# Altium schematic symbol library ACROME_Lib.SchLib: 89 symbols (part 3 of 3)
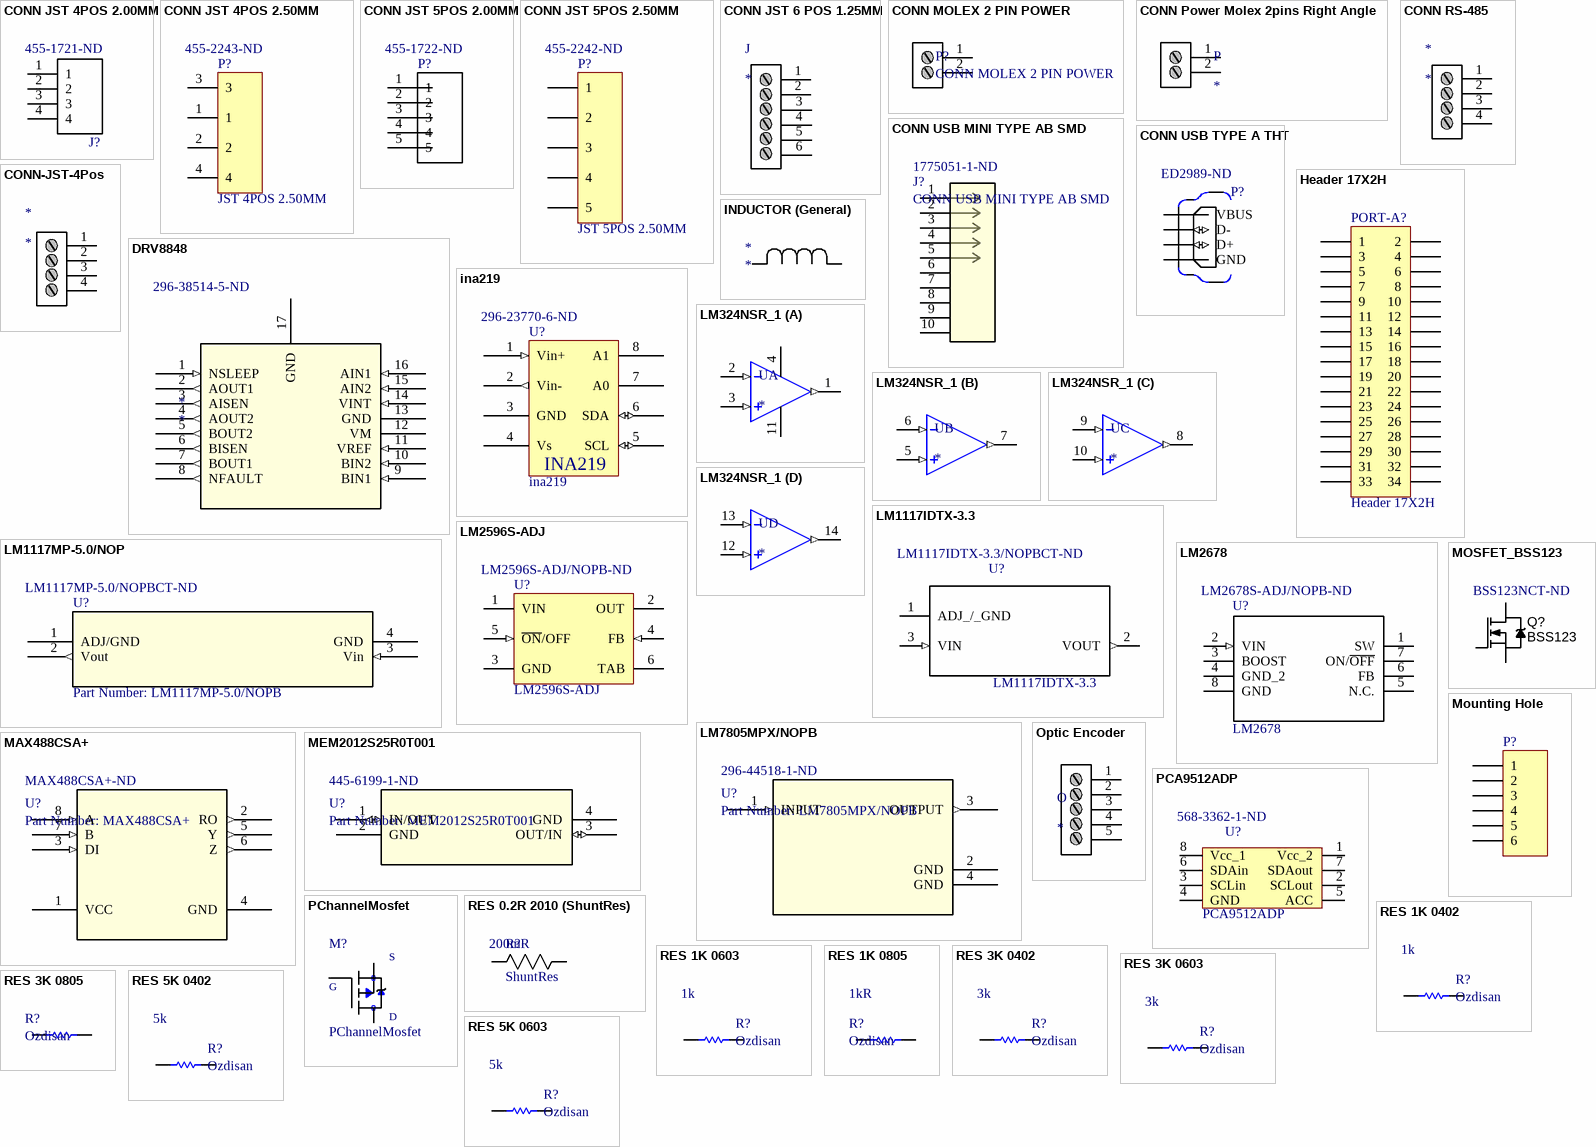
[diagram p4: symbols CONN JST 4POS 2.00MM to RES 5K 0603]

## LM2678
designator U?  Supplier Part Number 1: LM2678S-ADJ/NOPB-ND
Conv DC-DC Single Step Down 8V to 40V 8-Pin(7+Tab) TO-263 Rail; Manufacturer: TI National Semiconductor; Manufacturer Part Number: LM2678S-ADJ/NOPB; Quiescent Current: 4.2mA; Output Type: Adjustable; Number of Outputs: 1; Output Voltage: 37V; Max Output Current: 5A; Switching Frequency: 260kHz; Efficiency: 84%; Min Output Voltage: 1.2V; Supplier 1: Digi-Key; RoHS: Yes; Category: Voltage Regulators - Switching; Stock 1: 1752; Pricing 1: 1=6,28000, 10=5,67600, 25=5,41200, 100=4,48800, 250=4,09200, 500=3,82800, 1000=3,43200, 2500=3,30000 (USD); Mount: Surface Mount; Case/Package: TO-263; Number of Pins: 7; Weight: 0.01lb; Contact Plating: Tin,Matte; Min Operating Temperature: -40°C; Max Operating Temperature: 125°C; Min Input Voltage: 8V; Max Input Voltage: 40V; Packaging: Rail/Tube; Output Current: 5A; Package Quantity: 45; Operating Supply Voltage: 40V; Max Output Voltage: 37V; Length: 10.16mm; Height: 4.57mm; Width: 8.64mm; Radiation Hardening: No; Lead Free: Contains Lead; REACH SVHC: No SVHC; ComponentLink1URL: https://datasheet.ciiva.com/22684/1874569-22684598.pdf?src-supplier=Element14; ComponentLink1Description: https://datasheet.ciiva.com/22684/1874569-22684598.pdf?src-supplier=Element14; ComponentLink2URL: https://datasheet.ciiva.com/3220/lm2678-3220055.pdf?src-supplier=Avnet; ComponentLink2Description: https://datasheet.ciiva.com/3220/lm2678-3220055.pdf?src-supplier=Avnet; ComponentLink3URL: https://datasheet.ciiva.com/6596/lm2678-6596055.pdf?src-supplier=Digi-Key; ComponentLink3Description: https://datasheet.ciiva.com/6596/lm2678-6596055.pdf?src-supplier=Digi-Key; ComponentLink4URL: https://datasheet.ciiva.com/16536/lm2678-16536149.pdf?src-supplier=Avnet+Asia; ComponentLink4Description: https://datasheet.ciiva.com/16536/lm2678-16536149.pdf?src-supplier=Avnet+Asia; ComponentLink5URL: https://datasheet.ciiva.com/14150/jwlm2678-datasheet-en-14150620.pdf?src-supplier=Distrelec; ComponentLink5Description: https://datasheet.ciiva.com/14150/jwlm2678-datasheet-en-14150620.pdf?src-supplier=Distrelec
footprint TO-263/7
pins: 1 SW (power), 2 VIN (in), 3 BOOST, 4 GND_2, 5 N.C., 6 FB, 7 ON/~{OFF}, 8 GND

## LM7805MPX/NOPB
designator U?, comment Part Number: LM7805MPX/NOPB  Supplier Part Number 1: 296-44518-1-ND
IC REG LINEAR 5V 1.5A SOT223-4; Built_By: EMA_Jessica; Vendor: Texas Instruments; Quiescent Current: 8mA; Dropout Voltage: 2V; Copyright: Copyright (C) 2018 Accelerated Designs. All rights reserved; Manufacturer_Part_Number: LM7805MPX/NOPB; RefDes: RefDes; Type: DEV; Value: Value; Supplier 1: Digi-Key; Manufacturer: Texas Instruments; Manufacturer Part Number: LM7805MPX/NOPB; RoHS: No; Category: Voltage Regulators - Linear; Stock 1: 2642; Pricing 1: 1=1,32000, 10=1,18000, 25=1,12000, 100=0,86000, 250=0,76000, 500=0,72000, 1000=0,56000 (USD); Min Operating Temperature: 0°C; Max Operating Temperature: 125°C; Lead Free: Lead Free
footprint DCY4
pins: 1 INPUT (in), 2 GND (power), 3 OUTPUT (out), 4 GND (power)

## MAX488CSA+
designator U?, comment Part Number: MAX488CSA+  Supplier Part Number 1: MAX488CSA+-ND
IC TXRX RS485/RS422 LOWPWR 8SOIC; Manufacturer: Maxim; Built_By: EMA_UL_Team; Vendor: Maxim Integrated Products; Logic Function: Transceiver,Receiver; Number of Transmitters: 1; Operating Supply Voltage: 5V; Data Rate: 250Kbps; Simplex/Duplex: Full Duplex; Interface: RS-422,RS-485; Operating Supply Current: 250uA; Max Supply Voltage: 5.25V; Min Supply Voltage: 4.75V; Manufacturer_Part_Number: MAX488CSA+; Copyright: Copyright (C) 2018 Accelerated Designs. All rights reserved; RefDes: RefDes; Type: DEV; Value: Value; Supplier 1: Digi-Key; Manufacturer Part Number: MAX488CSA+; RoHS: Yes; Category: Interface ICs; Stock 1: 1334; Pricing 1: 1=2,33000, 10=2,09400, 25=1,97960, 100=1,66480 (USD); Mount: Surface Mount; Case/Package: SOIC; Number of Pins: 8; Weight: 0.01787oz; Min Operating Temperature: 0°C; Max Operating Temperature: 70°C; Packaging: Rail/Tube; Number of Drivers: 1; Number of Transceivers: 1; Number of Receivers: 1; Package Quantity: 100; Length: 5mm; Height: 1.5mm; Width: 4mm; Radiation Hardening: No; Lead Free: Lead Free; REACH SVHC: No SVHC; ComponentLink1URL: https://datasheet.ciiva.com/3028/max1487-max491-3028658.pdf?src-supplier=Avnet; ComponentLink1Description: https://datasheet.ciiva.com/3028/max1487-max491-3028658.pdf?src-supplier=Avnet; ComponentLink2URL: https://datasheet.ciiva.com/1712/max1487-max491-1712635.pdf?src-supplier=Digi-Key; ComponentLink2Description: https://datasheet.ciiva.com/1712/max1487-max491-1712635.pdf?src-supplier=Digi-Key; ComponentLink3URL: https://datasheet.ciiva.com/14152/jwmax481-491-data-e-14152686.pdf?src-supplier=Distrelec; ComponentLink3Description: https://datasheet.ciiva.com/14152/jwmax481-491-data-e-14152686.pdf?src-supplier=Distrelec; ComponentLink4URL: https://datasheet.ciiva.com/16640/max1487-max491-16640620.pdf?src-supplier=Avnet+Europe; ComponentLink4Description: https://datasheet.ciiva.com/16640/max1487-max491-16640620.pdf?src-supplier=Avnet+Europe
footprint 21-0041B_8
pins: 1 VCC (power), 2 RO (out), 3 DI (in), 4 GND (power), 5 Y (out), 6 Z (out), 7 B (in), 8 A (in)

## MEM2012S25R0T001
designator U?, comment Part Number: MEM2012S25R0T001  Supplier Part Number 1: 445-6199-1-ND
FILTER LC(T) 25MHZ SMD; Vendor: TDK; Built_By: EMA_UL_Team; Attenuation Value: 30dB; Current: 100mA; ESD Protection: No; Max Voltage Rating (DC): 10V; Number of Channels: 1; Tolerance: 30%; Manufacturer_Part_Number: MEM2012S25R0T001; Copyright: Copyright (C) 2018 Accelerated Designs. All rights reserved; RefDes: RefDes; Type: DEV; Value: Value; Supplier 1: Digi-Key; Manufacturer: TDK; Manufacturer Part Number: MEM2012S25R0T001; RoHS: Yes; Category: EMI / RFI Components; Stock 1: 22410; Pricing 1: 1=0,39000, 10=0,35800, 25=0,34120, 50=0,33000, 100=0,31900, 250=0,30252, 500=0,25300, 1000=0,19635 (USD); Case/Package: 0805; Case Code (Metric): 2012; Case Code (Imperial): 0805; Min Operating Temperature: -40°C; Max Operating Temperature: 85°C; Circuit Type: Filter; Max DC Current: 100mA; Termination: SMD/SMT; Package Quantity: 1; Max Current Rating: 100mA; Packaging: Tape and Reel; Current Rating: 100mA; Voltage Rating (DC): 10V; Length: 2mm; Height: 0.037inch; Depth: 1.25mm; Width: 0.049inch; Lead Free: Lead Free; ComponentLink1URL: https://datasheet.ciiva.com/1016/e96-mem-sp-1016163.pdf?src-supplier=Digi-Key; ComponentLink1Description: https://datasheet.ciiva.com/1016/e96-mem-sp-1016163.pdf?src-supplier=Digi-Key; ComponentLink2URL: https://datasheet.ciiva.com/1016/e96-mem-sp-1016161.pdf?src-supplier=Digi-Key; ComponentLink2Description: https://datasheet.ciiva.com/1016/e96-mem-sp-1016161.pdf?src-supplier=Digi-Key; ComponentLink3URL: https://datasheet.ciiva.com/1016/e96-mem-sp-1016162.pdf?src-supplier=Digi-Key; ComponentLink3Description: https://datasheet.ciiva.com/1016/e96-mem-sp-1016162.pdf?src-supplier=Digi-Key
footprint MEM-4_2P0X1P25-M
pins: 1 IN/OUT (io), 2 GND (power), 3 OUT/IN (io), 4 GND (power)

## MOSFET_BSS123
designator Q?, comment BSS123  Supplier Part Number 2: BSS123NCT-ND
100V, 3.5 OHM, N-CH, FET, SOT-; Manufacturer 1: Diodes Inc; Manufacturer Part Number 1: BSS123-7-F; Manufacturer: ON Semiconductor / Fairchild; Ratings: 100V; 170mA; Material: Metal Oxide; SCDType: source; Continuous Drain Current (ID): 170mA; Input Capacitance: 73pF; Max Power Dissipation: 360mW; Gate to Source Voltage (Vgs): 20V; Rds On Max: 6R; Turn-Off Delay Time: 17ns; Element Configuration: Single; Turn-On Delay Time: 1.7ns; Rise Time: 9ns; Number of Elements: 1; Nominal Vgs: 1.7V; Package / Case: SOT23-3; Supplier 1: Digi-Key; Supplier Part Number 1: BSS123-FDICT-ND; Supplier 2: Digi-Key; Manufacturer Part Number: BSS123; RoHS: Yes; Category: MOSFETs; Stock 2: 211934; Pricing 2: 1=0,31000, 10=0,25500, 25=0,21320, 100=0,10430, 250=0,10264, 500=0,08698, 1000=0,06044 (USD); Mount: Surface Mount; Case/Package: SOT-23; Number of Pins: 3; Contact Plating: Tin,Matte; Min Operating Temperature: -55°C; Max Operating Temperature: 150°C; Drain to Source Voltage (Vdss): 100V; Packaging: Tape and Reel; Power Dissipation: 360mW; Drain to Source Resistance: 6R; Package Quantity: 1; Drain to Source Breakdown Voltage: 100V; Fall Time: 9ns; Voltage Rating (DC): 100V; Current Rating: 170mA; Threshold Voltage: 1.7V; On-State Resistance: 6R; Voltage: 100V; Dual Supply Voltage: 100V; Length: 2.92mm; Height: 0.93mm; Width: 1.3mm; Radiation Hardening: No; Lead Free: Lead Free; REACH SVHC: No SVHC; ComponentLink1URL: https://datasheet.ciiva.com/5836/276131-5836616.pdf?src-supplier=Farnell; ComponentLink1Description: https://datasheet.ciiva.com/5836/276131-5836616.pdf?src-supplier=Farnell; ComponentLink2URL: https://datasheet.ciiva.com/27050/870161-27050553.pdf?src-supplier=Jameco; ComponentLink2Description: https://datasheet.ciiva.com/27050/870161-27050553.pdf?src-supplier=Jameco; ComponentLink3URL: https://datasheet.ciiva.com/4441/bss123-90724-4441226.pdf?src-supplier=Mouser; ComponentLink3Description: https://datasheet.ciiva.com/4441/bss123-90724-4441226.pdf?src-supplier=Mouser; ComponentLink4URL: https://datasheet.ciiva.com/3304/bss123-3304416.pdf?src-supplier=Avnet; ComponentLink4Description: https://datasheet.ciiva.com/3304/bss123-3304416.pdf?src-supplier=Avnet; ComponentLink5URL: https://datasheet.ciiva.com/15137/getdatasheetpartid-58830-15137228.pdf?src-supplier=Verical; ComponentLink5Description: https://datasheet.ciiva.com/15137/getdatasheetpartid-58830-15137228.pdf?src-supplier=Verical; ComponentLink6URL: https://datasheet.ciiva.com/931/bss123-931780.pdf?src-supplier=Digi-Key; ComponentLink6Description: https://datasheet.ciiva.com/931/bss123-931780.pdf?src-supplier=Digi-Key; ComponentLink7URL: https://datasheet.ciiva.com/931/bss123-931781.pdf?src-supplier=Digi-Key; ComponentLink7Description: https://datasheet.ciiva.com/931/bss123-931781.pdf?src-supplier=Digi-Key; ComponentLink8URL: https://datasheet.ciiva.com/1190/276131-1190075.pdf?src-supplier=Element14; ComponentLink8Description: https://datasheet.ciiva.com/1190/276131-1190075.pdf?src-supplier=Element14; ComponentLink9URL: https://datasheet.ciiva.com/931/bss123-931782.pdf?src-supplier=Digi-Key; ComponentLink9Description: https://datasheet.ciiva.com/931/bss123-931782.pdf?src-supplier=Digi-Key; ComponentLink10URL: https://datasheet.ciiva.com/16465/bss123-16465671.pdf?src-supplier=Avnet+Asia; ComponentLink10Description: https://datasheet.ciiva.com/16465/bss123-16465671.pdf?src-supplier=Avnet+Asia; ComponentLink11URL: https://datasheet.ciiva.com/7643/276131-7643050.pdf?src-supplier=Element14; ComponentLink11Description: https://datasheet.ciiva.com/7643/276131-7643050.pdf?src-supplier=Element14; ComponentLink12URL: https://datasheet.ciiva.com/17170/bss123-17170795.pdf?src-supplier=Future+Electronics; ComponentLink12Description: https://datasheet.ciiva.com/17170/bss123-17170795.pdf?src-supplier=Future+Electronics
footprint SOT23-3 (SOT23, 3 pin)
pins: 1 G, 2 S, 3 D

## Mounting Hole
designator P?
footprint PCBComponent_1
pins: 1, 2, 3, 4, 5, 6

## Optic Encoder
designator O
Optic Encoder
footprint Optic Encoder
pins: 1, 2, 3, 4 42, 5

## PCA9512ADP
designator U?  Supplier Part Number 1: 568-3362-1-ND
NXP - PCA9512ADP,118 - I2C BUS/SMBUS BUS BUFFER 5.5V TSSOP-8; Manufacturer: NXP Semiconductors; Min Supply Voltage: 2.7V; Max Frequency: 400kHz; Interface: I2C,SMBus; Number of Channels: 1; Nominal Supply Current: 3.6mA; Operating Supply Current: 1.8mA; Number of Input Lines: 3; Supplier 1: Digi-Key; Manufacturer Part Number: PCA9512ADP,118; RoHS: Yes; Category: Interface ICs; Stock 1: 8977; Pricing 1: 1=2,32000, 10=2,08800, 25=1,96960, 100=1,57560, 250=1,37864, 500=1,33926, 1000=1,06353 (USD); Mount: Surface Mount; Case/Package: TSSOP; Number of Pins: 8; Contact Plating: Gold; Min Operating Temperature: -40°C; Max Operating Temperature: 85°C; Max Supply Voltage: 5.5V; Packaging: Cut Tape; Logic Function: Buffer; Package Quantity: 1; Number of Output Lines: 3; Length: 3.1mm; Height: 0.95mm; Width: 3.1mm; Radiation Hardening: No; Lead Free: Lead Free; REACH SVHC: No SVHC; ComponentLink1URL: https://datasheet.ciiva.com/1560/1759214-1560740.pdf?src-supplier=Farnell; ComponentLink1Description: https://datasheet.ciiva.com/1560/1759214-1560740.pdf?src-supplier=Farnell; ComponentLink2URL: https://datasheet.ciiva.com/46390/1759214-46390790.pdf?src-supplier=Element14; ComponentLink2Description: https://datasheet.ciiva.com/46390/1759214-46390790.pdf?src-supplier=Element14; ComponentLink3URL: https://datasheet.ciiva.com/1504/1759214-1504152.pdf?src-supplier=Element14; ComponentLink3Description: https://datasheet.ciiva.com/1504/1759214-1504152.pdf?src-supplier=Element14; ComponentLink4URL: https://datasheet.ciiva.com/16220/pca9512a-pca9512b-16220616.pdf?src-supplier=Future+Electronics; ComponentLink4Description: https://datasheet.ciiva.com/16220/pca9512a-pca9512b-16220616.pdf?src-supplier=Future+Electronics; ComponentLink5URL: https://datasheet.ciiva.com/1611/1759214-1611305.pdf?src-supplier=Newark; ComponentLink5Description: https://datasheet.ciiva.com/1611/1759214-1611305.pdf?src-supplier=Newark; ComponentLink6URL: https://datasheet.ciiva.com/1783/pca9512a-pca9512b-1783033.pdf?src-supplier=Digi-Key; ComponentLink6Description: https://datasheet.ciiva.com/1783/pca9512a-pca9512b-1783033.pdf?src-supplier=Digi-Key; ComponentLink7URL: https://datasheet.ciiva.com/1783/pca9512a-pca9512b-1783034.pdf?src-supplier=Digi-Key; ComponentLink7Description: https://datasheet.ciiva.com/1783/pca9512a-pca9512b-1783034.pdf?src-supplier=Digi-Key; ComponentLink8URL: https://datasheet.ciiva.com/1783/pca9512a-pca9512b-1783035.pdf?src-supplier=Digi-Key; ComponentLink8Description: https://datasheet.ciiva.com/1783/pca9512a-pca9512b-1783035.pdf?src-supplier=Digi-Key; ComponentLink9URL: https://datasheet.ciiva.com/3149/pca9512a-pca9512b-3149259.pdf?src-supplier=Avnet; ComponentLink9Description: https://datasheet.ciiva.com/3149/pca9512a-pca9512b-3149259.pdf?src-supplier=Avnet; ComponentLink10URL: https://datasheet.ciiva.com/3149/pca9512a-pca9512b-3149260.pdf?src-supplier=Avnet; ComponentLink10Description: https://datasheet.ciiva.com/3149/pca9512a-pca9512b-3149260.pdf?src-supplier=Avnet
footprint TSSOP8
pins: 1 Vcc_2, 2 SCLout, 3 SCLin, 4 GND, 5 ACC, 6 SDAin, 7 SDAout, 8 Vcc_1

## PChannelMosfet
designator M?
footprint NChannelMosfet
pins: 1_G G, 2_D D, 3_S S

## RES 0.2R 2010 (ShuntRes)
designator R?, comment ShuntRes  Resistance: 200mR
RES.SHUNT (5025) 2010 200m Ohms 1% 3W; Manufacturer: ISABELLENHÜTTE; Manufacturer Part Number: VMP-R200-1.0-U; Temperature Coefficient: ±20ppm/°K; Voltage Rating: 310mV; Supplier 1: Ozdisan; Mount: Surface Mount; Case/Package: 2010; Weight: 0.001372oz; Case Code (Metric): 5025; Case Code (Imperial): 2010; Contact Plating: Tin,Matte; Min Operating Temperature: -65°C; Max Operating Temperature: 170°C; Power Rating: 3W; Tolerance: 1%; Packaging: Tape and Reel; Package Quantity: 1; Composition: Metal Element,Metal Strip; Military Standard: Not; Termination: SMD/SMT; Number of Terminations: 2; Max Power Dissipation: 3W; Features: Moisture Resistant; Length: 0.2inch; Height: 0.635mm; Width: 0.1inch; Depth: 2.54mm; Radiation Hardening: No; REACH SVHC: Unknown; Lead Free: Lead Free; Supplier Part Number 1: VMP-R200-1.0-U; ComponentLink7Description: OZDISAN-Supplier Link; ComponentLink7URL: https://www.ozdisan.com/passive-components/resistors/precision-power-and-shunt-resistors/VMP-R200-1-0-U
footprint 2010 CHIP-RES
pins: 1, 2

## RES 1K 0402
designator R?, comment Ozdisan  Resistance: 1k
RES.(1005) 0402 1K Ohms 5% 1/16W 100PPM; Manufacturer Part Number: 0402WGJ0102TCEX; Temperature Coefficient: 200ppm/°C; Voltage Rating (DC): 50V; Power Rating: 100mW; ComponentLink1Description: OZDISAN-Supplier Link; ComponentLink1URL: https://www.ozdisan.com/passive-components/resistors/smt-smd-and-chip-resistors/0402WGJ0102TCE; Manufacturer: Ozdisan; RoHS: Yes; Mount: Surface Mount; Case/Package: 0402; Contact Plating: Tin; Case Code (Metric): 1005; Case Code (Imperial): 0402; Min Operating Temperature: -55°C; Max Operating Temperature: 155°C; Composition: Thick Film; Tolerance: 5%; Number of Terminations: 2; Termination: SMD/SMT; Military Standard: Not; Packaging: Tape and Reel; Voltage Rating: 50V; Package Quantity: 1; Features: Automotive AEC-Q200; Max Power Dissipation: 100mW; Working Voltage: 50V; Length: 1mm; Height: 0.35mm; Depth: 0.5mm; Width: 0.02inch; Radiation Hardening: No; Lead Free: Lead Free; REACH SVHC: No SVHC; ComponentLink2URL: https://datasheet.ciiva.com/11821/0900766b80f806dd-11821202.pdf?src-supplier=RSComponents; ComponentLink2Description: https://datasheet.ciiva.com/11821/0900766b80f806dd-11821202.pdf?src-supplier=RSComponents; ComponentLink3URL: https://datasheet.ciiva.com/34303/1986781-34303542.pdf?src-supplier=Jameco; ComponentLink3Description: https://datasheet.ciiva.com/34303/1986781-34303542.pdf?src-supplier=Jameco; ComponentLink4URL: https://datasheet.ciiva.com/16762/70260739-16762170.pdf?src-supplier=Allied+Electronics; ComponentLink4Description: https://datasheet.ciiva.com/16762/70260739-16762170.pdf?src-supplier=Allied+Electronics; ComponentLink5URL: https://datasheet.ciiva.com/17215/aoa0000ce1-17215306.pdf?src-supplier=Avnet+Europe; ComponentLink5Description: https://datasheet.ciiva.com/17215/aoa0000ce1-17215306.pdf?src-supplier=Avnet+Europe; ComponentLink6URL: https://datasheet.ciiva.com/43460/1500035-43460379.pdf?src-supplier=Farnell; ComponentLink6Description: https://datasheet.ciiva.com/43460/1500035-43460379.pdf?src-supplier=Farnell; ComponentLink7URL: https://datasheet.ciiva.com/16199/aoa0000ce1-16199541.pdf?src-supplier=Future+Electronics; ComponentLink7Description: https://datasheet.ciiva.com/16199/aoa0000ce1-16199541.pdf?src-supplier=Future+Electronics; ComponentLink8URL: https://datasheet.ciiva.com/30219/4aoa0000ce1-30219159.pdf?src-supplier=Onlinecomponents.com; ComponentLink8Description: https://datasheet.ciiva.com/30219/4aoa0000ce1-30219159.pdf?src-supplier=Onlinecomponents.com; ComponentLink9URL: https://datasheet.ciiva.com/22783/1500035-22783817.pdf?src-supplier=Farnell; ComponentLink9Description: https://datasheet.ciiva.com/22783/1500035-22783817.pdf?src-supplier=Farnell; ComponentLink10URL: https://datasheet.ciiva.com/48531/aoa0000ce1-48531081.pdf?src-supplier=Avnet; ComponentLink10Description: https://datasheet.ciiva.com/48531/aoa0000ce1-48531081.pdf?src-supplier=Avnet; ComponentLink11URL: https://datasheet.ciiva.com/46386/1500035-46386458.pdf?src-supplier=Element14; ComponentLink11Description: https://datasheet.ciiva.com/46386/1500035-46386458.pdf?src-supplier=Element14; ComponentLink12URL: https://datasheet.ciiva.com/16511/aoa0000ce1-16511421.pdf?src-supplier=Avnet+Asia; ComponentLink12Description: https://datasheet.ciiva.com/16511/aoa0000ce1-16511421.pdf?src-supplier=Avnet+Asia; ComponentLink13URL: https://datasheet.ciiva.com/46371/1500035-46371935.pdf?src-supplier=Element14; ComponentLink13Description: https://datasheet.ciiva.com/46371/1500035-46371935.pdf?src-supplier=Element14
footprint 0402 CHIP-RES
pins: 1, 2

## RES 1K 0603
designator R?, comment Ozdisan  Resistance: 1k
RES.(1608) 0603 1K Ohms 5% 1/10W 100PPM; Manufacturer: Yageo; Manufacturer Part Number: 0603SAJ0102T5E; Power Rating: 100mW; Voltage Rating: 50V; Temperature Coefficient: 100ppm/°C; RoHS: Yes; Case/Package: 0603; Number of Pins: 2; Case Code (Imperial): 0603; Case Code (Metric): 1608; Contact Plating: Tin,Matte; Min Operating Temperature: -55°C; Max Operating Temperature: 155°C; Packaging: Tape and Reel; Tolerance: 5%; Voltage Rating (DC): 50V; Termination: SMD/SMT; Composition: Thick Film; Length: 1.6mm; Height: 0.45mm; Depth: 0.8mm; Width: 0.8mm; Radiation Hardening: No; Lead Free: Lead Free; REACH SVHC: Unknown; ComponentLink1URL: https://datasheet.ciiva.com/8883/pyu-rc0603-51-rohs-l-4-8883051.pdf?src-supplier=Avnet; ComponentLink1Description: https://datasheet.ciiva.com/8883/pyu-rc0603-51-rohs-l-4-8883051.pdf?src-supplier=Avnet; ComponentLink2URL: https://datasheet.ciiva.com/7746/443971-7746461.pdf?src-supplier=Element14; ComponentLink2Description: https://datasheet.ciiva.com/7746/443971-7746461.pdf?src-supplier=Element14; ComponentLink3URL: https://datasheet.ciiva.com/7746/443971-7746462.pdf?src-supplier=Element14; ComponentLink3Description: https://datasheet.ciiva.com/7746/443971-7746462.pdf?src-supplier=Element14; ComponentLink4URL: https://datasheet.ciiva.com/22747/443971-22747533.pdf?src-supplier=Element14; ComponentLink4Description: https://datasheet.ciiva.com/22747/443971-22747533.pdf?src-supplier=Element14; Supplier 1: Ozdisan; Supplier Part Number 1: 0603SAJ0102T5E; ComponentLink5Description: OZDISAN-Supplier Link; ComponentLink5URL: https://www.ozdisan.com/passive-components/resistors/smt-smd-and-chip-resistors/0603SAJ0102T5E
footprint 0603 CHIP-RES
pins: 1, 2

## RES 1K 0805
designator R?, comment Ozdisan  Resistance: 1kR
RES.(2012) 0805 1K Ohms 5% 1/8W 100PPM; Manufacturer: Yageo; Manufacturer Part Number: RC0805JR-071KL; Temperature Coefficient: 100ppm/°C; Power Rating: 125mW; Voltage Rating: 150V; ComponentLink4Description: OZDISAN-Supplier Link; ComponentLink4URL: https://www.ozdisan.com/passive-components/resistors/smt-smd-and-chip-resistors/RC0805JR-071KL; Supplier 1: Ozdisan; RoHS: Yes; Case/Package: 0805; Contact Plating: Tin,Lead,Matte; Case Code (Imperial): 0805; Case Code (Metric): 2012; Min Operating Temperature: -55°C; Max Operating Temperature: 155°C; Composition: Thick Film; Tolerance: 5%; Packaging: Tape and Reel; Termination: SMD/SMT; Military Standard: Not; Length: 2mm; Depth: 1.25mm; Radiation Hardening: No; REACH SVHC: Unknown; Lead Free: Lead Free; ComponentLink1URL: https://datasheet.ciiva.com/15190/getdatasheetpartid-135056-15190037.pdf?src-supplier=Verical; ComponentLink1Description: https://datasheet.ciiva.com/15190/getdatasheetpartid-135056-15190037.pdf?src-supplier=Verical; ComponentLink2URL: https://datasheet.ciiva.com/12667/rc0805-12667110.pdf?src-supplier=Mouser; ComponentLink2Description: https://datasheet.ciiva.com/12667/rc0805-12667110.pdf?src-supplier=Mouser; ComponentLink3URL: https://datasheet.ciiva.com/7941/442941-7941911.pdf?src-supplier=Element14; ComponentLink3Description: https://datasheet.ciiva.com/7941/442941-7941911.pdf?src-supplier=Element14; ComponentLink5URL: https://datasheet.ciiva.com/7941/442941-7941912.pdf?src-supplier=Element14; ComponentLink5Description: https://datasheet.ciiva.com/7941/442941-7941912.pdf?src-supplier=Element14; ComponentLink6URL: https://datasheet.ciiva.com/46395/444164-46395131.pdf?src-supplier=Element14; ComponentLink6Description: https://datasheet.ciiva.com/46395/444164-46395131.pdf?src-supplier=Element14; Supplier Part Number 1: RC0805JR-071KL
footprint 0805 CHIP-RES
pins: 1, 2

## RES 3K 0402
designator R?, comment Ozdisan  Resistance: 3k
RES.(1005) 0402 3.3K Ohms 5% 1/16W 100PPM; Manufacturer: KOA Speer; Manufacturer Part Number: 0402WGJ0332TCE302J; Voltage Rating (DC): 50V; Temperature Coefficient: 200ppm/°C; Power Rating: 100mW; ComponentLink1Description: OZDISAN-Supplier link; ComponentLink1URL: https://www.ozdisan.com/passive-components/resistors/smt-smd-and-chip-resistors/0402WGJ0332TCE; RoHS: Yes; Mount: Surface Mount; Case/Package: 0402; Case Code (Imperial): 0402; Case Code (Metric): 1005; Min Operating Temperature: -55°C; Max Operating Temperature: 155°C; Termination: SMD/SMT; Composition: Thick Film; Tolerance: 5%; Packaging: Tape and Reel; Voltage Rating: 50V; Length: 1mm; Height: 0.35mm; Depth: 0.5mm; Width: 0.5mm; Lead Free: Lead Free; ComponentLink2URL: https://datasheet.ciiva.com/15202/getdatasheetpartid-257517-15202621.pdf?src-supplier=Verical; ComponentLink2Description: https://datasheet.ciiva.com/15202/getdatasheetpartid-257517-15202621.pdf?src-supplier=Verical; Supplier: Ozdisan
footprint 0402 CHIP-RES
pins: 1, 2

## RES 3K 0603
designator R?, comment Ozdisan  Resistance: 3k
RES.(1608) 0603 3K Ohms 5% 1/10W-S 100PPM; Manufacturer: Yageo; Manufacturer Part Number: 0603SAJ0302T5E; Voltage Rating (DC): 50V; Power Rating: 100mW; Voltage Rating: 75V; Temperature Coefficient: 100ppm/°C; ComponentLink1Description: OZDISAN-Supplier; ComponentLink1URL: https://www.ozdisan.com/passive-components/resistors/smt-smd-and-chip-resistors/0603SAJ0302T5E; Supplier 1: Ozdisan; RoHS: Yes; Case/Package: 0603; Number of Pins: 2; Weight: 7.1E-05oz; Case Code (Imperial): 0603; Case Code (Metric): 1608; Min Operating Temperature: -55°C; Max Operating Temperature: 155°C; Features: Moisture Resistant; Termination: SMD/SMT; Composition: Thick Film; Number of Terminations: 2; Military Standard: Not; Tolerance: 5%; Packaging: Tape and Reel; Package Quantity: 1; Max Power Dissipation: 100mW; Length: 1.6mm; Height: 0.022inch; Depth: 0.8mm; Width: 0.8mm; Lead Free: Lead Free; REACH SVHC: No SVHC; ComponentLink2URL: https://datasheet.ciiva.com/2453/pyu-r-int-thick-7-2453145.pdf?src-supplier=Digi-Key; ComponentLink2Description: https://datasheet.ciiva.com/2453/pyu-r-int-thick-7-2453145.pdf?src-supplier=Digi-Key; ComponentLink3URL: https://datasheet.ciiva.com/2453/pyu-r-int-thick-7-2453146.pdf?src-supplier=Digi-Key; ComponentLink3Description: https://datasheet.ciiva.com/2453/pyu-r-int-thick-7-2453146.pdf?src-supplier=Digi-Key; ComponentLink4URL: https://datasheet.ciiva.com/2453/pyu-r-int-thick-7-2453147.pdf?src-supplier=Digi-Key; ComponentLink4Description: https://datasheet.ciiva.com/2453/pyu-r-int-thick-7-2453147.pdf?src-supplier=Digi-Key; Supplier Part Number 1: 0603SAJ0302T5E
footprint 0603 CHIP-RES
pins: 1, 2

## RES 3K 0805
designator R?, comment Ozdisan
RES.(2012) 0805 3K Ohms 5% 1/8W 100PPM; Manufacturer: Samsung; Manufacturer Part Number: RC2012J302CS; Resistance: 3kR; Max Power Dissipation: 125mW; Temperature Coefficient: 100ppm/°C; Voltage Rating (DC): 150V; Supplier 1: Ozdisan; RoHS: Yes; Case/Package: 0805; Case Code (Metric): 2012; Case Code (Imperial): 0805; Contact Plating: Tin; Min Operating Temperature: -55°C; Max Operating Temperature: 155°C; Tolerance: 5%; Features: Moisture Resistant; Packaging: Tape and Reel; Number of Terminations: 2; Military Standard: Not; Composition: Thick Film; Length: 0.079inch; Height: 0.024inch; Width: 0.049inch; Depth: 1.25mm; Radiation Hardening: No; Lead Free: Lead Free; ComponentLink1URL: https://datasheet.ciiva.com/26156/chip-resistor-150112-1-26156951.pdf?src-supplier=Digi-Key; ComponentLink1Description: https://datasheet.ciiva.com/26156/chip-resistor-150112-1-26156951.pdf?src-supplier=Digi-Key; ComponentLink2URL: https://datasheet.ciiva.com/26156/chip-resistor-150112-1-26156975.pdf?src-supplier=Digi-Key; ComponentLink2Description: https://datasheet.ciiva.com/26156/chip-resistor-150112-1-26156975.pdf?src-supplier=Digi-Key; Supplier Part Number 1: RC2012J302CS
footprint 0805 CHIP-RES
pins: 1, 2

## RES 5K 0402
designator R?, comment Ozdisan  Resistance: 5k
RES.(1005) 0402 5K Ohms 1% 1/10W 100PPM; Manufacturer: PANASONIC COMP.; Manufacturer Part Number: ERJ-2RKF5001X; Max Power Dissipation: 100mW; Temperature Coefficient: 100ppm/°C; ComponentLink1Description: OZDISAN-Supplier Link; ComponentLink1URL: https://www.ozdisan.com/passive-components/resistors/smt-smd-and-chip-resistors/ERJ-2RKF5001X; RoHS: Yes; Case/Package: 0402; Min Operating Temperature: -55°C; Max Operating Temperature: 155°C; Number of Terminations: 2; Features: Moisture Resistant; Tolerance: 1%; Packaging: Tape and Reel; Composition: Thick Film; Length: 0.039inch; Height: 0.016inch; Width: 0.02inch; ComponentLink2URL: http://www.yageo.com/documents/recent/PYu-RC_Group_51_RoHS_L_9.pdf?src-supplier=Digi-Key; ComponentLink2Description: http://www.yageo.com/documents/recent/PYu-RC_Group_51_RoHS_L_9.pdf?src-supplier=Digi-Key; Supplier 1: Ozdisan
footprint 0402 CHIP-RES
pins: 1, 2

## RES 5K 0603
designator R?, comment Ozdisan  Resistance: 5k
RES.(1608) 0603 5.1K Ohms 1% 1/10W; Manufacturer: Yageo; Manufacturer Part Number: RC0603FR-075K1L; Power Rating: 100mW; Temperature Coefficient: 100ppm/°C; Voltage Rating (DC): 50V; ComponentLink1Description: OZDISAN-Supplier Link; ComponentLink1URL: https://www.ozdisan.com/passive-components/resistors/smt-smd-and-chip-resistors/RC0603FR-075K1L; Case/Package: 0603; Number of Pins: 2; Case Code (Imperial): 0603; Case Code (Metric): 1608; Min Operating Temperature: -55°C; Max Operating Temperature: 155°C; Tolerance: 1%; Voltage Rating: 50V; Packaging: Tape and Reel; Package Quantity: 1; Features: Moisture Resistant; Termination: SMD/SMT; Composition: Thick Film; Number of Terminations: 2; Military Standard: Not; Max Power Dissipation: 100mW; Length: 0.063inch; Height: 0.022inch; Depth: 0.8mm; Width: 0.031inch; REACH SVHC: No SVHC; Lead Free: Lead Free; ComponentLink2URL: https://datasheet.ciiva.com/46395/443971-46395016.pdf?src-supplier=Element14; ComponentLink2Description: https://datasheet.ciiva.com/46395/443971-46395016.pdf?src-supplier=Element14; ComponentLink3URL: https://datasheet.ciiva.com/15189/getdatasheetpartid-326732-15189786.pdf?src-supplier=Verical; ComponentLink3Description: https://datasheet.ciiva.com/15189/getdatasheetpartid-326732-15189786.pdf?src-supplier=Verical; ComponentLink4URL: https://datasheet.ciiva.com/2454/pyu-r-int-thick-7-2454045.pdf?src-supplier=Digi-Key; ComponentLink4Description: https://datasheet.ciiva.com/2454/pyu-r-int-thick-7-2454045.pdf?src-supplier=Digi-Key; ComponentLink5URL: https://datasheet.ciiva.com/2454/pyu-r-int-thick-7-2454046.pdf?src-supplier=Digi-Key; ComponentLink5Description: https://datasheet.ciiva.com/2454/pyu-r-int-thick-7-2454046.pdf?src-supplier=Digi-Key; ComponentLink6URL: https://datasheet.ciiva.com/2454/pyu-r-int-thick-7-2454047.pdf?src-supplier=Digi-Key; ComponentLink6Description: https://datasheet.ciiva.com/2454/pyu-r-int-thick-7-2454047.pdf?src-supplier=Digi-Key; Supplier 1: Ozdisan; RoHS: Yes
footprint 0603 CHIP-RES
pins: 1, 2

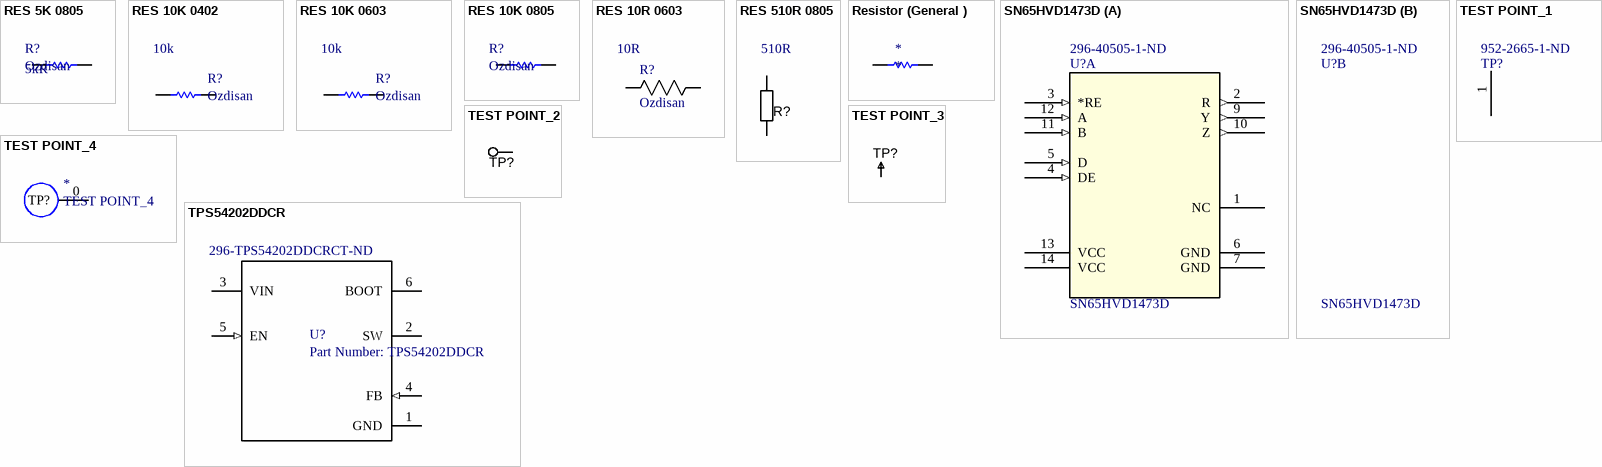
[diagram p2: symbols RES 5K 0805 to TPS54202DDCR]

## RES 5K 0805
designator R?, comment Ozdisan  Resistance: 5kR
RES.(2012) 0805 5K Ohms 1% 1/8W-S 100PPM; Manufacturer 1: ROYALOHM; Manufacturer Part Number 1: 0805S8F5001T5E; Voltage Rating: 150V; ComponentLink1Description: OZDISAN-Supplier Link; ComponentLink1URL: https://www.ozdisan.com/passive-components/resistors/smt-smd-and-chip-resistors/0805S8F5001T5E; Package/Case: 0805 (2012 Metric); Supplier 1: Ozdisan; Supplier Part Number 1: 0805S8F5001T5E; Tolerance: 1%
footprint 0805 CHIP-RES
pins: 1, 2

## RES 10K 0402
designator R?, comment Ozdisan  Resistance: 10k
RES.(1005) 0402 10K Ohms 0.1% 1/16W 50PPM; Manufacturer: ROYALOHM; Manufacturer Part Number: TC0250B1002TCC; Max Power Dissipation: 63mW; Temperature Coefficient: 25ppm/°C; ComponentLink1Description: OZDISAN-Supplier Link; ComponentLink1URL: https://www.ozdisan.com/passive-components/resistors/smt-smd-and-chip-resistors/TC0250B1002TCC; Supplier 1: Ozdisan; RoHS: Yes; Mount: Surface Mount; Case/Package: 0402; Case Code (Imperial): 0402; Contact Plating: Tin,Matte; Case Code (Metric): 1005; Min Operating Temperature: -55°C; Max Operating Temperature: 155°C; Packaging: Tape and Reel; Tolerance: 0.1%; Package Quantity: 10000; Composition: Thin Film; Number of Terminations: 2; Features: Moisture Resistant; Length: 0.039inch; Height: 0.016inch; Width: 0.02inch; Radiation Hardening: No; ComponentLink2URL: https://www.seielect.com/catalog/SEI-Packaging.pdf?src-supplier=Digi-Key; ComponentLink2Description: https://www.seielect.com/catalog/SEI-Packaging.pdf?src-supplier=Digi-Key; ComponentLink3URL: https://www.seielect.com/Catalog/SEI-rncf.pdf?src-supplier=Avnet; ComponentLink3Description: https://www.seielect.com/Catalog/SEI-rncf.pdf?src-supplier=Avnet; Supplier Part Number 1: TC0250B1002TCC
footprint 0402 CHIP-RES
pins: 1, 2

## RES 10K 0603
designator R?, comment Ozdisan  Resistance: 10k
RES.(1608) 0603 510K Ohms 0.5% 1/16W 50PPM; Manufacturer: ROYALOHM; Manufacturer Part Number: TC0350D5103T5C; Voltage Rating: 50V; Power Rating: 63mW; Temperature Coefficient: 50ppm/°C; ComponentLink1Description: OZDISAN-Supplier Link; ComponentLink1URL: https://www.ozdisan.com/passive-components/resistors/smt-smd-and-chip-resistors/TC0350D5103T5C; RoHS: Yes; Case/Package: 0603; Case Code (Metric): 1608; Case Code (Imperial): 0603; Min Operating Temperature: -55°C; Max Operating Temperature: 125°C; Tolerance: 0.5%; Packaging: Tape and Reel; Termination: SMD/SMT; Composition: Thin Film; ComponentLink2URL: https://datasheet.ciiva.com/12700/rn73-12700104.pdf?src-supplier=Mouser; ComponentLink2Description: https://datasheet.ciiva.com/12700/rn73-12700104.pdf?src-supplier=Mouser; Supplier 1: Ozdisan; Supplier Part Number: TC0350D5103T5C
footprint 0603 CHIP-RES
pins: 1, 2

## RES 10K 0805
designator R?, comment Ozdisan
RES.(2012) 0805 10K Ohms 5% 1/8W 100PPM; Manufacturer: Yageo; Manufacturer Part Number: RC0805JR-0710KL; Temperature Coefficient: 100ppm/°C; Resistance: 10kR; Power Rating: 125mW; Voltage Rating: 150V; Supplier 1: Ozdisan; RoHS: Yes; Case/Package: 0805; Contact Plating: Tin,Matte; Case Code (Imperial): 0805; Case Code (Metric): 2012; Min Operating Temperature: -55°C; Max Operating Temperature: 155°C; Composition: Thick Film; Tolerance: 5%; Termination: SMD/SMT; Military Standard: Not; Packaging: Tape and Reel; Length: 2mm; Height: 0.5mm; Depth: 1.25mm; Width: 1.25mm; Radiation Hardening: No; Lead Free: Lead Free; REACH SVHC: Unknown; ComponentLink1URL: https://datasheet.ciiva.com/7983/444164-7983765.pdf?src-supplier=Element14; ComponentLink1Description: https://datasheet.ciiva.com/7983/444164-7983765.pdf?src-supplier=Element14; ComponentLink2URL: https://datasheet.ciiva.com/7941/444164-7941870.pdf?src-supplier=Element14; ComponentLink2Description: https://datasheet.ciiva.com/7941/444164-7941870.pdf?src-supplier=Element14; ComponentLink3URL: https://datasheet.ciiva.com/7941/444164-7941871.pdf?src-supplier=Element14; ComponentLink3Description: https://datasheet.ciiva.com/7941/444164-7941871.pdf?src-supplier=Element14; ComponentLink4Description: OZDISAN-Supplier Link; ComponentLink4URL: https://www.ozdisan.com/passive-components/resistors/smt-smd-and-chip-resistors/RC0805JR-0710KL; Supplier Part Number 1: RC0805JR-0710KL
footprint 0805 CHIP-RES
pins: 1, 2

## RES 10R 0603
designator R?, comment Ozdisan  Resistance: 10R
RES SMD 10 OHM 1% 1/10W 0603; Manufacturer: Yageo; Manufacturer Part Number: RC0603FR-0710RL; Power Rating: 100mW; Voltage Rating: 50V; Temperature Coefficient: 200ppm/°C; Supplier 1: Ozdisan; Case/Package: 0603; Number of Pins: 2; Case Code (Imperial): 0603; Case Code (Metric): 1608; Contact Plating: Tin,Matte; Min Operating Temperature: -55°C; Max Operating Temperature: 155°C; Packaging: Tape and Reel; Tolerance: 1%; Termination: SMD/SMT; Composition: Thick Film; Voltage Rating (DC): 50V; Military Standard: Not; Length: 1.6mm; Height: 0.45mm; Width: 0.8mm; Depth: 0.8mm; Radiation Hardening: No; REACH SVHC: No SVHC; Lead Free: Lead Free; ComponentLink1URL: http://www.farnell.com/datasheets/1868787.pdf?src-supplier=Element14; ComponentLink1Description: http://www.farnell.com/datasheets/1868787.pdf?src-supplier=Element14; ComponentLink2URL: http://www.yageo.com/documents/recent/PYu-RC0603_51_RoHS_L_4.pdf?src-supplier=Avnet; ComponentLink2Description: http://www.yageo.com/documents/recent/PYu-RC0603_51_RoHS_L_4.pdf?src-supplier=Avnet; ComponentLink3URL: http://documents.rs-components.com/techlib://itc_doclist_GB.htm?stockno=5048984&src-supplier=RSComponents; ComponentLink3Description: http://documents.rs-components.com/techlib://itc_doclist_GB.htm?stockno=5048984&src-supplier=RSComponents; ComponentLink4URL: http://www.yageo.com/documents/recent/PYu-RC0603_51_RoHS_L_4.pdf?src-supplier=Avnet+Europe; ComponentLink4Description: http://www.yageo.com/documents/recent/PYu-RC0603_51_RoHS_L_4.pdf?src-supplier=Avnet+Europe; Supplier Part Number 1: RC0603FR-0710RL; ComponentLink5Description: OZDISAN-Supplier Link; ComponentLink5URL: https://www.ozdisan.com/Product/Detail/494575/RC0603FR-0710RL
footprint 0603 CHIP-RES
pins: 1, 2

## RES 510R 0805
designator R?, comment Resistance: 510R  (hidden comment: Ozdisan)
RES.(2012) 0805 510 Ohms 1% 1/8W-S 100PPM; Manufacturer Part Number 1: 0805S8F5100T5E; Manufacturer: ROYALOHM; Ratings: 1/8 W; SCDType: spec; Temperature Coefficient: 100ppm/°C; Number of Resistors: 1; Power Rating: 125mW; Voltage Rating: 150V; Package / Case: 0805 (2012 Metric); Material: Thick Film; Supplier 1: Ozdisan; Supplier Part Number 1: 0805S8F5100T5E; ComponentLink1Description: OZDISAN-Supplier Link; ComponentLink1URL: https://www.ozdisan.com/Product/Detail/340662/0805S8F5100T5E; Manufacturer Part Number: 0805S8F5100T5E; RoHS: Yes; Mount: Surface Mount; Case/Package: 0805; Weight: 0.000194oz; Case Code (Imperial): 0805; Case Code (Metric): 2012; Min Operating Temperature: -55°C; Max Operating Temperature: 125°C; Composition: Thick Film; Tolerance: 1%; Number of Terminations: 2; Packaging: Tape and Reel; Termination: Solder; Length: 2mm; Height: 0.55mm; Width: 1.25mm; Radiation Hardening: No; ELV: Compliant; ComponentLink2URL: https://datasheet.ciiva.com/24324/eng-ds-1773204-e-24324200.pdf?src-supplier=Onlinecomponents.com; ComponentLink2Description: https://datasheet.ciiva.com/24324/eng-ds-1773204-e-24324200.pdf?src-supplier=Onlinecomponents.com; ComponentLink3URL: https://datasheet.ciiva.com/12574/eng-ds-1773204-g-12574028.pdf?src-supplier=Mouser; ComponentLink3Description: https://datasheet.ciiva.com/12574/eng-ds-1773204-g-12574028.pdf?src-supplier=Mouser
footprint PTC 2920L SERIES
pins: 1, 2

## Resistor (General )
designator *
pins: 1, 2

## SN65HVD1473D
designator U?  Supplier Part Number 1: 296-40505-1-ND
IC RS485 TXRX 3.3 ESD 14SOIC; Manufacturer Part Number: SN65HVD1473DR; Built_By: EMA_UL_Team; Vendor: Texas Instruments; Simplex/Duplex: Full Duplex; Number of Transmitters: 1; Operating Supply Voltage: 3.3V; Logic Function: Receiver; Data Rate: 20Mbps; Receiver Hysteresis: 70mV; Copyright: Copyright (C) 2018 Accelerated Designs. All rights reserved; Manufacturer_Part_Number: SN65HVD1473D; RefDes: RefDes; Type: DEV; Value: Value; Supplier 1: Digi-Key; Manufacturer: Texas Instruments; RoHS: Yes; Category: RS-232 / RS-422 / RS-485 Interface ICs; Stock 1: 1465; Pricing 1: 1=3,61000, 10=3,24600, 25=3,06920, 100=2,52340, 250=2,26424, 500=2,18240, 1000=1,81412 (USD); Mount: Surface Mount; Case/Package: SOIC; Number of Pins: 14; Min Operating Temperature: -40°C; Max Operating Temperature: 125°C; Packaging: Tape and Reel; Lead Free: Lead Free; ComponentLink1URL: http://www.ti.com/lit/ds/symlink/sn65hvd1473.pdf?src-supplier=Digi-Key; ComponentLink1Description: http://www.ti.com/lit/ds/symlink/sn65hvd1473.pdf?src-supplier=Digi-Key; ComponentLink2URL: http://www.ti.com/general/docs/lit/getliterature.tsp?genericPartNumber=SN65HVD1477&&fileType=pdf&src-supplier=Avnet; ComponentLink2Description: http://www.ti.com/general/docs/lit/getliterature.tsp?genericPartNumber=SN65HVD1477&&fileType=pdf&src-supplier=Avnet
footprint D14
part A pins: 1 NC, 2 R (out), 3 *RE (in), 4 DE (in), 5 D (in), 6 GND (power), 7 GND (power), 9 Y (out), 10 Z (out), 11 B (in), 12 A (in), 13 VCC (power), 14 VCC (power)

## TEST POINT_1
designator TP?  Supplier Part Number 1: 952-2665-1-ND  (hidden comment: TEST POINT_1)
PC TEST POINT TIN SMD; Manufacturer: Harwin; MF: Harwin Inc.; MP: S2761-46R; Body Material: Brass; Package: DIP-4 Harwin; Digi-Key_Part_Number: 952-2665-1-ND; Digi-Key_Purchase_URL: https://www.digikey.com/product-detail/en/harwin-inc/S2761-46R/952-2665-1-ND/5250502?utm_source=snapeda&utm_medium=aggregator&utm_campaign=symbol; SnapEDA_Link: https://www.snapeda.com/parts/S2761-46R/Harwin%20Inc./view-part/783060/?ref=snap; Value: *; Supplier 1: Digi-Key; Manufacturer Part Number: S2761-46R; RoHS: Yes; Category: Headers and Wire Housings; Stock 1: 58579; Pricing 1: 1=0,26000, 10=0,24600, 25=0,21120, 50=0,17960, 100=0,17250, 250=0,15488, 500=0,14784, 1000=0,12320 (USD); Mount: Surface Mount; Material: Copper Alloy; Color: Natural; Plating: Tin; Packaging: Tape and Reel; ComponentLink1URL: https://cdn.harwin.com/pdfs/Harwin_PC_PCB_Hardware.pdf?src-supplier=Digi-Key; ComponentLink1Description: https://cdn.harwin.com/pdfs/Harwin_PC_PCB_Hardware.pdf?src-supplier=Digi-Key; ComponentLink2URL: https://cdn.harwin.com/pdfs/Harwin_PC_PCB_Hardware.pdf?src-supplier=Avnet+Europe; ComponentLink2Description: https://cdn.harwin.com/pdfs/Harwin_PC_PCB_Hardware.pdf?src-supplier=Avnet+Europe; ComponentLink3URL: https://cdn.harwin.com/pdfs/Harwin_PC_PCB_Hardware.pdf?src-supplier=Mouser; ComponentLink3Description: https://cdn.harwin.com/pdfs/Harwin_PC_PCB_Hardware.pdf?src-supplier=Mouser; ComponentLink4URL: https://cdn.harwin.com/pdfs/S2761R.pdf?src-supplier=Digi-Key; ComponentLink4Description: https://cdn.harwin.com/pdfs/S2761R.pdf?src-supplier=Digi-Key; ComponentLink5URL: https://cdn.harwin.com/pdfs/Harwin_PC_PCB_Hardware.pdf?src-supplier=TTI; ComponentLink5Description: https://cdn.harwin.com/pdfs/Harwin_PC_PCB_Hardware.pdf?src-supplier=TTI
footprint *HARWIN_S2761-46R
pins: 1

## TEST POINT_2
designator TP?  (value not drawn)  (no BOM)
TEST POINT
footprint THP_D46_T80_B80 (Footprint not found)
pins: 1

## TEST POINT_3
designator TP?  (value not drawn)
Test Point Through Hole PCB mount Miniature White; PBL Part Number: 3100-567; Manufacturer 1: Keystone Electronics; Manufacturer Part Number 1: 5002; Mounting Type: 0.040" (1.0mm) Hole Diameter; Material: Base, Nylon 46, UL 94V-0; Supplier 1: Digi-Key; Supplier Part Number 1: 5002K-ND
footprint TP-THT-MINI (Thru-hole test point loop)
pins: 1

## TEST POINT_4
designator *
Test Point SMD
footprint Test_Point
pins: 0 TP?

## TPS54202DDCR
designator U?, comment Part Number: TPS54202DDCR  Supplier Part Number 1: 296-TPS54202DDCRCT-ND
Conv DC-DC 4.5V to 28V Synchronous Step Down Single-Out -0.1V to 28V 2A 6-Pin TSOT-23 T/R; Alternate_PartNumber: TPS54202DDCT; Vendor: Texas Instruments; Built_By: Texas_Instrument_Team; CompType: IC; Number of Outputs: 1; Min Output Voltage: 596mV; Switching Frequency: 500kHz; Synchronous Rectifier: Yes; Quiescent Current: 40uA; Output Type: Adjustable; Output Configuration: Positive; Manufacturer_Part_Number: TPS54202DDCR; Copyright: Copyright (C) 2018 Accelerated Designs. All rights reserved; RefDes: RefDes; Type: DEV; Value: Value; Application_BuildNumber: *; PartNumber: TPS54202DDCR; PackageReference: DDC0006A; MountType: SMT; RoHS: Y; Manufacturer: Texas Instruments; Supplier 1: Digi-Key; Manufacturer Part Number: TPS54202DDCR; Category: Power Supply Modules; Stock 1: 2579; Pricing 1: 1=1,52000, 10=1,36300, 25=1,29360, 100=0,99330, 250=0,87780, 500=0,83160, 1000=0,64680 (USD); Mount: Surface Mount; Case/Package: SOT-23-6; Min Operating Temperature: -40°C; Max Operating Temperature: 125°C; Packaging: Tape and Reel; Min Input Voltage: 4.5V; Max Input Voltage: 28V; Max Output Voltage: 28V; Output Current: 2A; Lead Free: Lead Free; ComponentLink1URL: http://www.ti.com/lit/ds/symlink/tps54202.pdf?src-supplier=Digi-Key; ComponentLink1Description: http://www.ti.com/lit/ds/symlink/tps54202.pdf?src-supplier=Digi-Key; ComponentLink2URL: http://www.ti.com/general/docs/suppproductinfo.tsp?distId=10&amp;gotoUrl=http%3A%2F%2Fwww.ti.com%2Flit%2Fgpn%2Ftps54202&src-supplier=Digi-Key; ComponentLink2Description: http://www.ti.com/general/docs/suppproductinfo.tsp?distId=10&amp;gotoUrl=http%3A%2F%2Fwww.ti.com%2Flit%2Fgpn%2Ftps54202&src-supplier=Digi-Key; ComponentLink3URL: http://www.ti.com/general/docs/suppproductinfo.tsp?distId=10&gotoUrl=http%3A%2F%2Fwww.ti.com%2Flit%2Fgpn%2Ftps54202&src-supplier=Digi-Key; ComponentLink3Description: http://www.ti.com/general/docs/suppproductinfo.tsp?distId=10&gotoUrl=http%3A%2F%2Fwww.ti.com%2Flit%2Fgpn%2Ftps54202&src-supplier=Digi-Key
footprint DDC0006A_N
pins: 1 GND (power), 2 SW (power), 3 VIN (power), 4 FB (in), 5 EN (in), 6 BOOT (power)